# Altium footprint library CAPC2012-0805.PcbLib: 1 footprints
Each footprint in its own frame and in the unit in brackets; x right, y up, seen from the top. Pads: shape width x height; smd on the part's side, far side on the other; paste and mask are expansions set on the pad; w line width, h text height; cw(c..) or ccw(c..) is an arc to the next point about the centre after c.
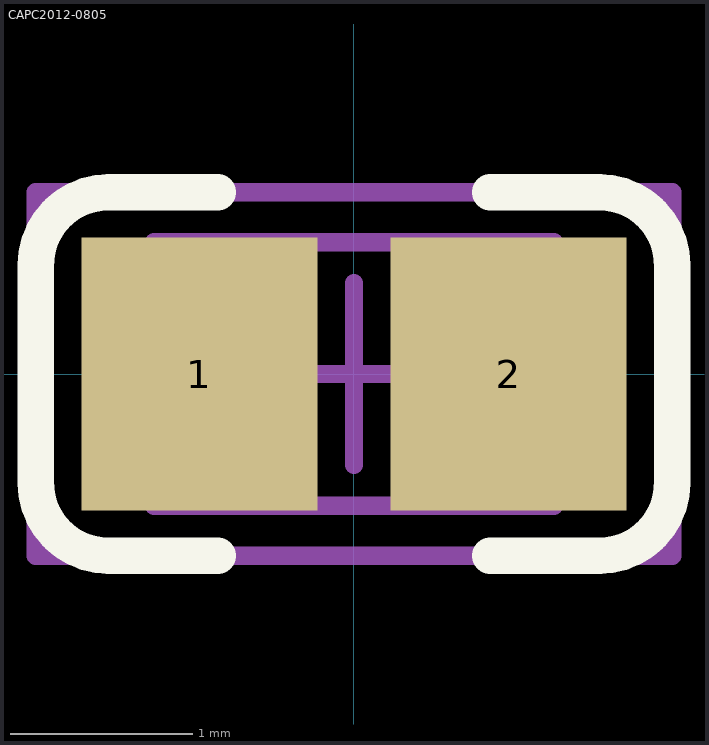
[diagram p0: the footprint, top view; thin cyan lines are the x and y axes]

## CAPC2012-0805 [mm] "Chip Capacitor, Body 2.0x1.3mm, IPC Medium Density"
height 1.1
pads (2):
  rect 1.3x1.5 smd: 1(-0.85,0) 2(0.85,0)
Top Overlay:
  lines w0.2: -0.75,-1 -1.35,-1 cw(c-1.35,-0.6) -1.75,-0.6 -1.75,0.6 cw(c-1.35,0.6) -1.35,1 -0.75,1 ; 0.75,-1 1.35,-1 ccw(c1.35,-0.6) 1.75,-0.6 1.75,0.6 ccw(c1.35,0.6) 1.35,1 0.75,1
Mechanical 13:
  lines w0.1: -1.1,-0.725 1.1,-0.725 1.1,0.725 -1.1,0.725 -1.1,-0.725
Mechanical 15:
  lines w0.1: -0.5,0 0.5,0 ; 0,-0.5 0,0.5 ; -1.75,-1 1.75,-1 1.75,1 -1.75,1 -1.75,-1
3D body: height 1.1, standoff 0, extent -1.1,-0.725 1.1,0.725